# Altium schematic symbol library card_design.SchLib: 12 symbols
Pins are listed as number, name and electrical type; pins without a type are passive.

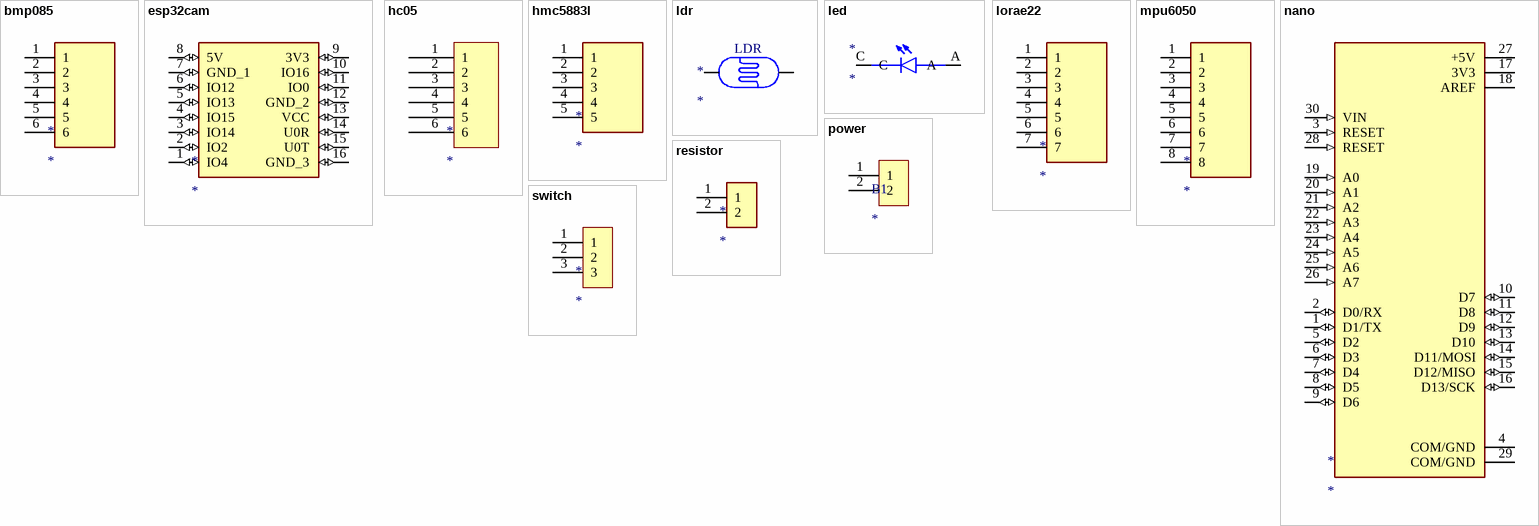
[diagram p0: symbols bmp085 to switch]

## bmp085
designator *
footprint bmp085
pins: 1, 2, 3, 4, 5, 6

## esp32cam
designator *
footprint esp32cam
pins: 1 IO4 (io), 2 IO2 (io), 3 IO14 (io), 4 IO15 (io), 5 IO13 (io), 6 IO12 (io), 7 GND_1 (io), 8 5V (io), 9 3V3 (io), 10 IO16 (io), 11 IO0 (io), 12 GND_2 (io), 13 VCC (io), 14 U0R (io), 15 U0T (io), 16 GND_3 (io)

## hc05
designator *
footprint hc05
pins: 1, 2, 3, 4, 5, 6

## hmc5883l
designator *
footprint hmc5883l
pins: 1, 2, 3, 4, 5

## ldr
designator *
footprint ldr
pins: 1 P$1 (io), 2 P$2 (io)
text: LDR

## led
designator *
footprint led
pins: A, C

## lorae22
designator *
footprint lorae22
pins: 1, 2, 3, 4, 5, 6, 7

## mpu6050
designator *
footprint mpu6050
pins: 1, 2, 3, 4, 5, 6, 7, 8

## nano
designator *
footprint nano
pins: 1 D1/TX (io), 2 D0/RX (io), 3 RESET (in), 4 COM/GND (power), 5 D2 (io), 6 D3 (io), 7 D4 (io), 8 D5 (io), 9 D6 (io), 10 D7 (io), 11 D8 (io), 12 D9 (io), 13 D10 (io), 14 D11/MOSI (io), 15 D12/MISO (io), 16 D13/SCK (io), 17 3V3 (power), 18 AREF (power), 19 A0 (in), 20 A1 (in), 21 A2 (in), 22 A3 (in), 23 A4 (in), 24 A5 (in), 25 A6 (in), 26 A7 (in), 27 +5V (power), 28 RESET (in), 29 COM/GND (power), 30 VIN (in)

## power
designator B1
footprint power
pins: 1, 2

## resistor
designator *
footprint resistor
pins: 1, 2

## switch
designator *
footprint switch
pins: 1, 2, 3